# Altium schematic symbol library SCH - DRIVER - LED - TI TLC5917-Q1_D_16.SchLib: 1 symbol
Pins are listed as number, name and electrical type; pins without a type are passive.

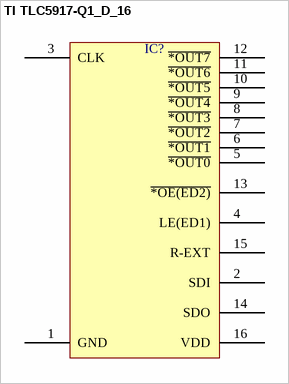
[diagram p0: symbol TI TLC5917-Q1_D_16]

## TI TLC5917-Q1_D_16
designator IC?  (value not drawn)
pins: 1 GND, 2 SDI, 3 CLK, 4 LE(ED1), 5 ~{*OUT0}, 6 ~{*OUT1}, 7 ~{*OUT2}, 8 ~{*OUT3}, 9 ~{*OUT4}, 10 ~{*OUT5}, 11 ~{*OUT6}, 12 ~{*OUT7}, 13 ~{*OE(ED2)}, 14 SDO, 15 R-EXT, 16 VDD